# EAGLE library part SN75240 (library df4iah_esd)
SN75240 ESD protection circuit for USB lines
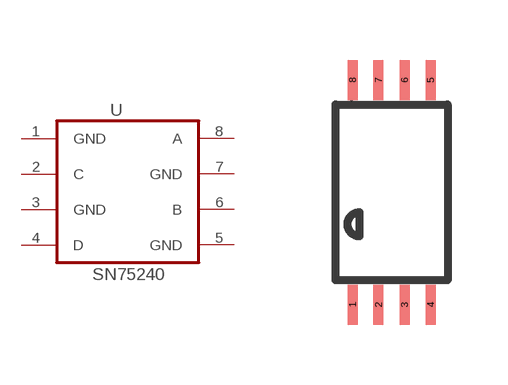
[diagram p1: symbol with the pads of TSSOP-8; footprint TSSOP-8]

Designator prefix -

## SN75240  [TSSOP-8]
1  GND  pwr
2  C  pas
3  GND  pwr
4  D  pas
5  GND  pwr
6  B  pas
7  GND  pwr
8  A  pas

## Footprint TSSOP-8 (pad centres in mm)
TSSOP-8 package
smd 0.25 x 1: 1 -0.975,-2.813; 2 -0.325,-2.813; 3 0.325,-2.813; 4 0.975,-2.813; 5 0.975,2.813; 6 0.325,2.813; 7 -0.325,2.813; 8 -0.975,2.813